# Altium schematic symbol library Inductors.SchLib: 6 symbols
Pins are listed as number, name and electrical type; pins without a type are passive.

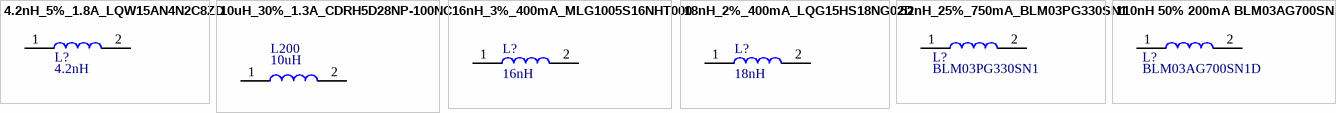
[diagram p0: symbols 4.2nH_5%_1.8A_LQW15AN4N2C8ZD to 110nH 50% 200mA BLM03AG700SN1D]

## 4.2nH_5%_1.8A_LQW15AN4N2C8ZD
designator L?  value 4.2nH  (hidden comment: 4.2nH_5%_1.8A_LQW15AN4N2C8ZD)
INDUCTOR 4.2nH 5% 1.8A LQW15AN4N2C8ZD; MANUFACTURER: MURATA; TOLERANCE: 5%; PACKAGING: 0402; MOUNTING: SMD; CURRENT RATING: 1.8A; MANUFACTURER REFERENCE: LQW15AN4N2C8ZD
footprint RF_IND_0402
pins: 1, 2

## 10uH_30%_1.3A_CDRH5D28NP-100NC
designator L200  value 10uH  (hidden comment: 10uH_30%_1.3A_CDRH5D28NP-100NC)
INDUCTOR 10uH 30% 1.3A CDRH5D28NP-100NC; MANUFACTURER: SUMIDA; TOLERANCE: 30%; MOUNTING: SMD; MANUFACTURER REFERENCE: CDRH5D28NP-100NC; CURRENT RATING: 1.3A
footprint IND_CDRH5D28
pins: 1, 2

## 16nH_3%_400mA_MLG1005S16NHT000
designator L?  value 16nH  (hidden comment: 16nH_3%_400mA_MLG1005S16NHT000)
INDUCTOR 16nH 3% 400mA MLG1005S16NHT000; MANUFACTURER: TDK; TOLERANCE: 3%; PACKAGING: 0402; MOUNTING: SMD; CURRENT RATING: 400mA; MANUFACTURER REFERENCE: MLG1005S16NHT000
footprint RF_IND_0402
pins: 1, 2

## 18nH_2%_400mA_LQG15HS18NG02D
designator L?  value 18nH  (hidden comment: 18nH_2%_400mA_LQG15HS18NG02D)
INDUCTOR 18nH 2% 400mA LQG15HS18NG02D; MANUFACTURER: MURATA; TOLERANCE: 2%; PACKAGING: 0402; MOUNTING: SMD; CURRENT RATING: 400mA; MANUFACTURER REFERENCE: LQG15HS18NG02D
footprint RF_IND_0402
pins: 1, 2

## 52nH_25%_750mA_BLM03PG330SN1
designator L?  MANUFACTURER REFERENCE: BLM03PG330SN1  (hidden comment: 52nH_25%_750mA_BLM03PG330SN1)
INDUCTOR 52uH 25% 750mA BLM03PG330SN1; MANUFACTURER: MURATA; VALUE: 52nF; TOLERANCE: 25%; PACKAGING: 0201; MOUNTING: SMD; CURRENT RATING: 750mA
footprint IND_0201
pins: 1, 2

## 110nH 50% 200mA BLM03AG700SN1D
designator L?, comment MANUFACTURER REFERENCE: BLM03AG700SN1D  (hidden comment: 110nH_50%_200mA_BLM03AG700SN1D)
INDUCTOR 110nH 50% 200mA BLM03AG700SN1D; MANUFACTURER: MURATA; TOLERANCE: 50%; PACKAGING: 0201; MOUNTING: SMD; CURRENT RATING: 200mA; VALUE: 110nH
footprint IND_0201
pins: 1, 2